# EAGLE library part ALTERA_EP53X2QI (library Poe)
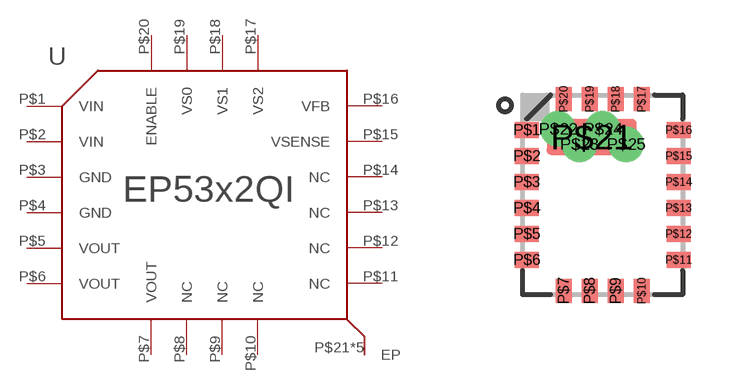
[diagram p3: symbol with the pads of ALTERA_DC_DC_MODULE_EP53X2QI; footprint ALTERA_DC_DC_MODULE_EP53X2QI]

Designator prefix U

## ALTERA_EP53X2QI  [ALTERA_DC_DC_MODULE_EP53X2QI]
P$1  VIN
P$2  VIN
P$3  GND
P$4  GND
P$5  VOUT
P$6  VOUT
P$7  VOUT
P$8  NC  nc
P$9  NC  nc
P$10  NC  nc
P$11  NC  nc
P$12  NC  nc
P$13  NC  nc
P$14  NC  nc
P$15  VSENSE
P$16  VFB
P$17  VS2
P$18  VS1
P$19  VS0
P$20  ENABLE
P$21  EP
P$22  EP
P$23  EP
P$24  EP
P$25  EP

## Footprint ALTERA_DC_DC_MODULE_EP53X2QI (pad centres in mm)
smd 0.61 x 0.406: P$1 -1.9,1.625; P$2 -1.9,0.975; P$3 -1.9,0.325; P$4 -1.9,-0.325; P$5 -1.9,-0.975; P$6 -1.9,-1.625; P$11 1.9,-1.625; P$12 1.9,-0.975; P$13 1.9,-0.325; P$14 1.9,0.325; P$15 1.9,0.975; P$16 1.9,1.625
smd 0.406 x 0.61: P$7 -0.975,-2.4; P$8 -0.325,-2.4; P$9 0.325,-2.4; P$10 0.975,-2.4; P$17 0.975,2.4; P$18 0.325,2.4; P$19 -0.325,2.4; P$20 -0.975,2.4
smd 2.25 x 0.9: P$21 -0.275,1.45
drill 0.381 pad 0.457: P$22 -1.118,1.651; P$23 -0.584,1.27; P$24 0,1.651; P$25 0.584,1.27